# EAGLE library part MKS1865-6-0-1515 (library con-stocko)
Serie MKS 1850 Lötstifte In-line, Raster 2.5 mm, Stiftwannen, stehend, mit Rastlasche Source: http://www.stocko.de/de/index.php?seite=ka_rfk2_mks1850.html&rubrik=Katalog+-+RFK+2 rfk_1850.pdf
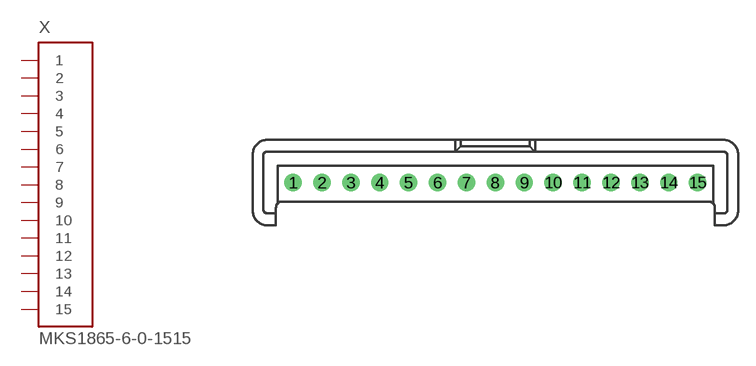
[diagram p1: symbol with the pads of MKS1865-6-0-1515; footprint MKS1865-6-0-1515]

Designator prefix X

## MKS1865-6-0-1515 (OC_FARNELL: unknown; OC_NEWARK: unknown)  [MKS1865-6-0-1515]
1  1  in
2  2  in
3  3  in
4  4  in
5  5  in
6  6  in
7  7  in
8  8  in
9  9  in
10  10  in
11  11  in
12  12  in
13  13  in
14  14  in
15  15  in

## Footprint MKS1865-6-0-1515 (pad centres in mm)
Serie MKS 1850 Lötstifte In-line, Raster 2.5 mm, Stiftwannen, stehend, mit Rastlasche Source: http://www.stocko.de/de/index.php?seite=ka_rfk2_mks1850.html&rubrik=Katalog+-+RFK+2 rfk_1850.pdf
drill 1 pad 1.422: 1 -17.5,0; 2 -15,0; 3 -12.5,0; 4 -10,0; 5 -7.5,0; 6 -5,0; 7 -2.5,0; 8 0,0; 9 2.5,0; 10 5,0; 11 7.5,0; 12 10,0; 13 12.5,0; 14 15,0; 15 17.5,0